# Altium schematic symbol library Diodes-SBD.SchLib: 2 symbols
Pins are listed as number, name and electrical type; pins without a type are passive.

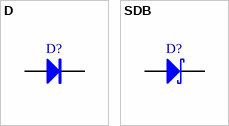
[diagram p0: symbols D to SDB]

## D
designator D?
pins: 1 A, 2 K

## SDB
designator D?
pins: 1 A, 2 K